# Altium schematic symbol library miscellanea.SchLib: 11 symbols
Pins are listed as number, name and electrical type; pins without a type are passive.

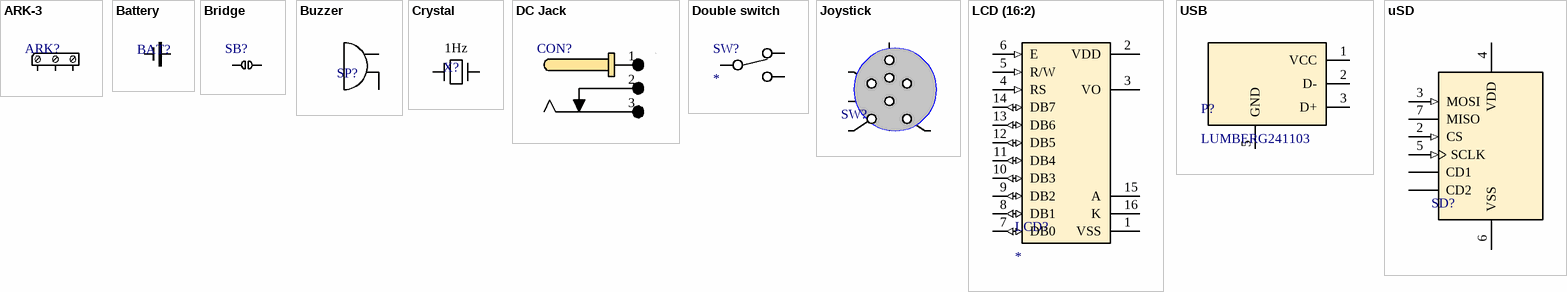
[diagram p0: symbols ARK-3 to uSD]

## ARK-3
designator ARK?  (value not drawn)
footprint ARK3
pins: 1, 2, 3

## Battery
designator BAT?  (value not drawn)
footprint CR2032 Holder (botland)
pins: 1 +, 2 -

## Bridge
designator SB?  (value not drawn)
footprint 0805
pins: 1, 2

## Buzzer
designator SP?  (value not drawn)
footprint Buzzer 3-16V (botland)
pins: 1, 2

## Crystal
designator X?  Frequency: 1Hz  (hidden comment: *)
ComponentLink1Description: Datasheet; ComponentLink1URL: https://www.4timing.com/specification/hc49smp.pdf
footprint HC49SMP
footprint X32K768S315
footprint SJK-QSDG16M000
pins: 1, 2

## DC Jack
designator CON?, comment FC681477  (value not drawn)
Rating: 12V / 2A; ComponentLink1Description: Datasheet; ComponentLink1URL: http://www.farnell.com/datasheets/2607082.pdf?_ga=2.241941314.1193962280.1589558354-303286379.1586364067&_gac=1.189249881.1589563198.Cj0KCQjw-_j1BRDkARIsAJcfmTFIG7O-lBwUzM7jXL1d54rcmK8ZCJrBZphKUIU-ia_1DnqilNgsh1YaAq1qEALw_wcB
footprint FC681477
pins: 1, 2, 3

## Double switch
designator SW?
footprint Switch 4.7mm (botland)
pins: 1, 2 COM, 3
1 alternate drawing of the same symbol

## Joystick
designator SW?, comment KLS7-MT-01  (value not drawn)
4-directional microswitch with center push; Rating: 100mA / 12V DC; Contact Resistance: 500M max.; Withstand Voltage: 250V DC (50Hz); Mechanical Life: 100000 times; Operating Force: 4 direction 160+/-50gf; center push 280+/-100gf; Movement: 4 direction 0.20+/-0.1mm; center push 0.15+/-0.1gf; ComponentLink1Description: Datasheet; ComponentLink1URL: https://www.rcscomponents.kiev.ua/datasheets/daatasheet-prztmt-01.pdf; Ambient Temperature Tange: -10*C to +60*C
footprint KLS-JOY-SW
pins: 1, 2, 3, 4, 5 (power), 6, 7 (power), 8 (power)

## LCD (16:2)
designator LCD?
Display Lcd 35x75mm; MP: LM016L; MF: Hitachi; Availability: Unavailable; Package: None; Value: *; Price: None; SnapEDA_Link: https://www.snapeda.com/parts/LM016L/Hitachi/view-part/229734/?ref=snap
footprint LCD (16:2)
pins: 1 VSS, 2 VDD (power), 3 VO (power), 4 RS (in), 5 R/W (in), 6 E (in), 7 DB0 (io), 8 DB1 (io), 9 DB2 (io), 10 DB3 (io), 11 DB4 (io), 12 DB5 (io), 13 DB6 (io), 14 DB7 (io), 15 A, 16 K

## USB
designator P?, comment LUMBERG241103
ComponentLink1Description: Datasheet; ComponentLink1URL: http://www.farnell.com/datasheets/2632919.pdf?_ga=2.217691222.1193962280.1589558354-303286379.1586364067&_gac=1.191757912.1589563198.Cj0KCQjw-_j1BRDkARIsAJcfmTFIG7O-lBwUzM7jXL1d54rcmK8ZCJrBZphKUIU-ia_1DnqilNgsh1YaAq1qEALw_wcB
footprint USB B (female)
pins: 1 VCC, 2 D-, 3 D+, 5 GND

## uSD
designator SD?, comment AMPHENOL114-00841-68 (uSD)  (value not drawn)
MP: 502570-0893; MF: Molex; Price: None; Package: None; Value: *; Availability: Unavailable; SnapEDA_Link: https://www.snapeda.com/parts/502570-0893/Molex/view-part/225170/?ref=snap
footprint 114-00841-68 (AMPHENOL)
pins: 2 CS (in), 3 MOSI (in), 4 VDD (power), 5 SCLK (in), 6 VSS (power), 7 MISO (oc), CD1, CD2